# EAGLE library part TPA6120A2DWPR (library TPA6120A2DWPR)
Audio Amplifiers High Fidelity Stereo Headphone Drv Source: Datasheet <http://www.ti.com/lit/ds/symlink/tpa6120a2.pdf>
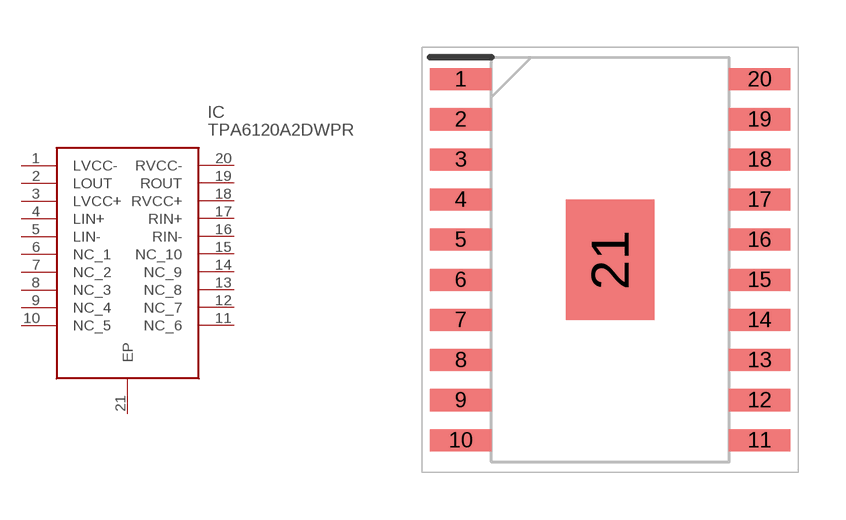
[diagram p0: symbol with the pads of SOIC127P1040X275-21N; footprint SOIC127P1040X275-21N]

Designator prefix IC

## TPA6120A2DWPR (Description: Audio Amplifiers High Fidelity Stereo Headphone Drv; Height: 2.75mm; Manufacturer_Name: Texas Instruments; Manufacturer_Part_Number: TPA6120A2DWPR; Mouser_Part_Number: 595-TPA6120A2DWPR; Mouser_Price-Stock: https://www.mouser.co.uk/ProductDetail/Texas-Instruments/TPA6120A2DWPR?qs=ojKcPFmCWSXiGd7G5JhN2A%3D%3D)  [SOIC127P1040X275-21N]
1  LVCC-
2  LOUT
3  LVCC+
4  LIN+
5  LIN-
6  NC_1
7  NC_2
8  NC_3
9  NC_4
10  NC_5
11  NC_6
12  NC_7
13  NC_8
14  NC_9
15  NC_10
16  RIN-
17  RIN+
18  RVCC+
19  ROUT
20  RVCC-
21  EP

## Footprint SOIC127P1040X275-21N (pad centres in mm)
DWP0020B
smd 1.94 x 0.7: 1 -4.73,5.715; 2 -4.73,4.445; 3 -4.73,3.175; 4 -4.73,1.905; 5 -4.73,0.635; 6 -4.73,-0.635; 7 -4.73,-1.905; 8 -4.73,-3.175; 9 -4.73,-4.445; 10 -4.73,-5.715; 11 4.73,-5.715; 12 4.73,-4.445; 13 4.73,-3.175; 14 4.73,-1.905; 15 4.73,-0.635; 16 4.73,0.635; 17 4.73,1.905; 18 4.73,3.175; 19 4.73,4.445; 20 4.73,5.715
smd 2.79 x 3.81: 21 0,0